# EAGLE library part MAX11156ETC+ (library MAX11156ETC+)
Analog to Digital Converters - ADC 18-Bit, 500ksps, 5V SAR ADC with Internal Reference in TDFN Source: Datasheet <https://componentsearchengine.com/Datasheets/1/MAX11156ETC .pdf>
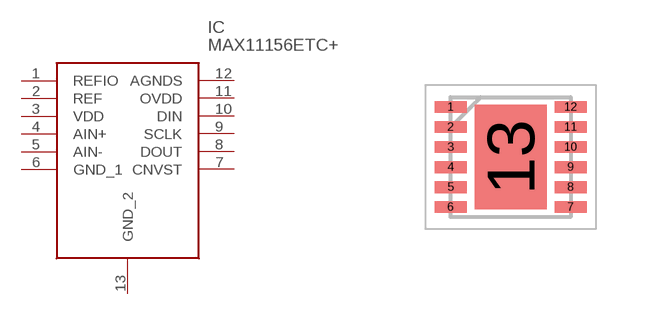
[diagram p0: symbol with the pads of SON50P300X300X80-13N; footprint SON50P300X300X80-13N]

Designator prefix IC

## MAX11156ETC+ (Description: Analog to Digital Converters - ADC 18-Bit, 500ksps, 5V SAR ADC with Internal Reference in TDFN; Height: 0.8mm; Manufacturer_Name: Analog Devices; Manufacturer_Part_Number: MAX11156ETC+; Mouser_Part_Number: 700-MAX11156ETC+; Mouser_Price-Stock: https://www.mouser.com/Search/Refine.aspx?Keyword=700-MAX11156ETC%2B)  [SON50P300X300X80-13N]
1  REFIO
2  REF
3  VDD
4  AIN+
5  AIN-
6  GND_1
7  CNVST
8  DOUT
9  SCLK
10  DIN
11  OVDD
12  AGNDS
13  GND_2

## Footprint SON50P300X300X80-13N (pad centres in mm)
TD1233+1
smd 0.8 x 0.3: 1 -1.5,1.25; 2 -1.5,0.75; 3 -1.5,0.25; 4 -1.5,-0.25; 5 -1.5,-0.75; 6 -1.5,-1.25; 7 1.5,-1.25; 8 1.5,-0.75; 9 1.5,-0.25; 10 1.5,0.25; 11 1.5,0.75; 12 1.5,1.25
smd 1.8 x 2.6: 13 0,0